# EAGLE library part ICE40UL1K-CM36AI (library ICE40UL1K-CM36AI)
FPGA - Field Programmable Gate Array FPGA iCE40-UltraLite 1.2V CBGA PKG Source: Datasheet <http://www.latticesemi.com/~/media/LatticeSemi/Documents/DataSheets/iCE/iCE40UltraLiteDataSheetDS1050.pdf>
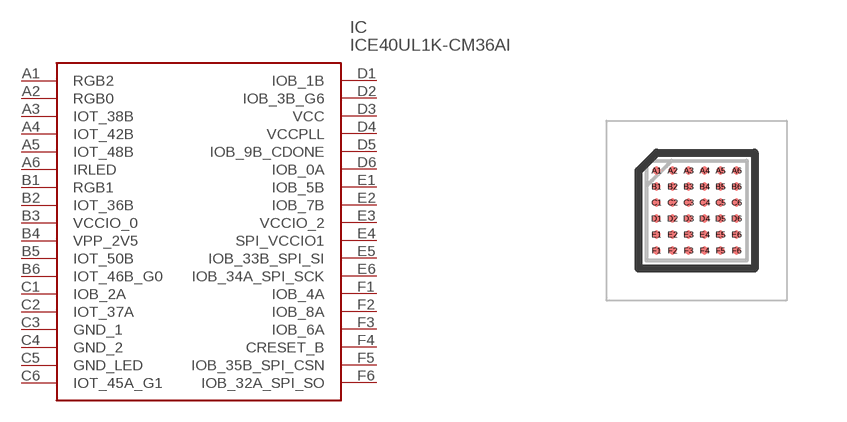
[diagram p0: symbol with the pads of BGA36C40P6X6_250X250X91; footprint BGA36C40P6X6_250X250X91]

Designator prefix IC

## ICE40UL1K-CM36AI (Arrow_Part_Number: ICE40UL1K-CM36AI; Arrow_Price-Stock: https://www.arrow.com/en/products/ice40ul1k-cm36ai/lattice-semiconductor; Description: FPGA - Field Programmable Gate Array FPGA iCE40-UltraLite 1.2V CBGA PKG; Height: 0.91mm; Manufacturer_Name: Lattice Semiconductor; Manufacturer_Part_Number: ICE40UL1K-CM36AI; Mouser_Part_Number: 842-ICE40UL1K-CM36AI; Mouser_Price-Stock: https://www.mouser.co.uk/ProductDetail/Lattice/ICE40UL1K-CM36AI/?qs=XJu%252BLGjWfSAZhGGFZ7EiQg%3D%3D)  [BGA36C40P6X6_250X250X91]
A1  RGB2
A2  RGB0
A3  IOT_38B
A4  IOT_42B
A5  IOT_48B
A6  IRLED
B1  RGB1
B2  IOT_36B
B3  VCCIO_0
B4  VPP_2V5
B5  IOT_50B
B6  IOT_46B_G0
C1  IOB_2A
C2  IOT_37A
C3  GND_1
C4  GND_2
C5  GND_LED
C6  IOT_45A_G1
D1  IOB_1B
D2  IOB_3B_G6
D3  VCC
D4  VCCPLL
D5  IOB_9B_CDONE
D6  IOB_0A
E1  IOB_5B
E2  IOB_7B
E3  VCCIO_2
E4  SPI_VCCIO1
E5  IOB_33B_SPI_SI
E6  IOB_34A_SPI_SCK
F1  IOB_4A
F2  IOB_8A
F3  IOB_6A
F4  CRESET_B
F5  IOB_35B_SPI_CSN
F6  IOB_32A_SPI_SO

## Footprint BGA36C40P6X6_250X250X91 (pad centres in mm)
iCE40 UltraTM
smd 0.2 x 0.2: A1 -1,1; A2 -0.6,1; A3 -0.2,1; A4 0.2,1; A5 0.6,1; A6 1,1; B1 -1,0.6; B2 -0.6,0.6; B3 -0.2,0.6; B4 0.2,0.6; B5 0.6,0.6; B6 1,0.6; C1 -1,0.2; C2 -0.6,0.2; C3 -0.2,0.2; C4 0.2,0.2; C5 0.6,0.2; C6 1,0.2; D1 -1,-0.2; D2 -0.6,-0.2; D3 -0.2,-0.2; D4 0.2,-0.2; D5 0.6,-0.2; D6 1,-0.2; E1 -1,-0.6; E2 -0.6,-0.6; E3 -0.2,-0.6; E4 0.2,-0.6; E5 0.6,-0.6; E6 1,-0.6; F1 -1,-1; F2 -0.6,-1; F3 -0.2,-1; F4 0.2,-1; F5 0.6,-1; F6 1,-1